# Altium footprint library MLACH0_9.PCBLIB: 97 footprints (part 2 of 7)
Each footprint in its own frame and in the unit in brackets; x right, y up, seen from the top. Pads: shape width x height; smd on the part's side, far side on the other; paste and mask are expansions set on the pad; w line width, h text height; cw(c..) or ccw(c..) is an arc to the next point about the centre after c.
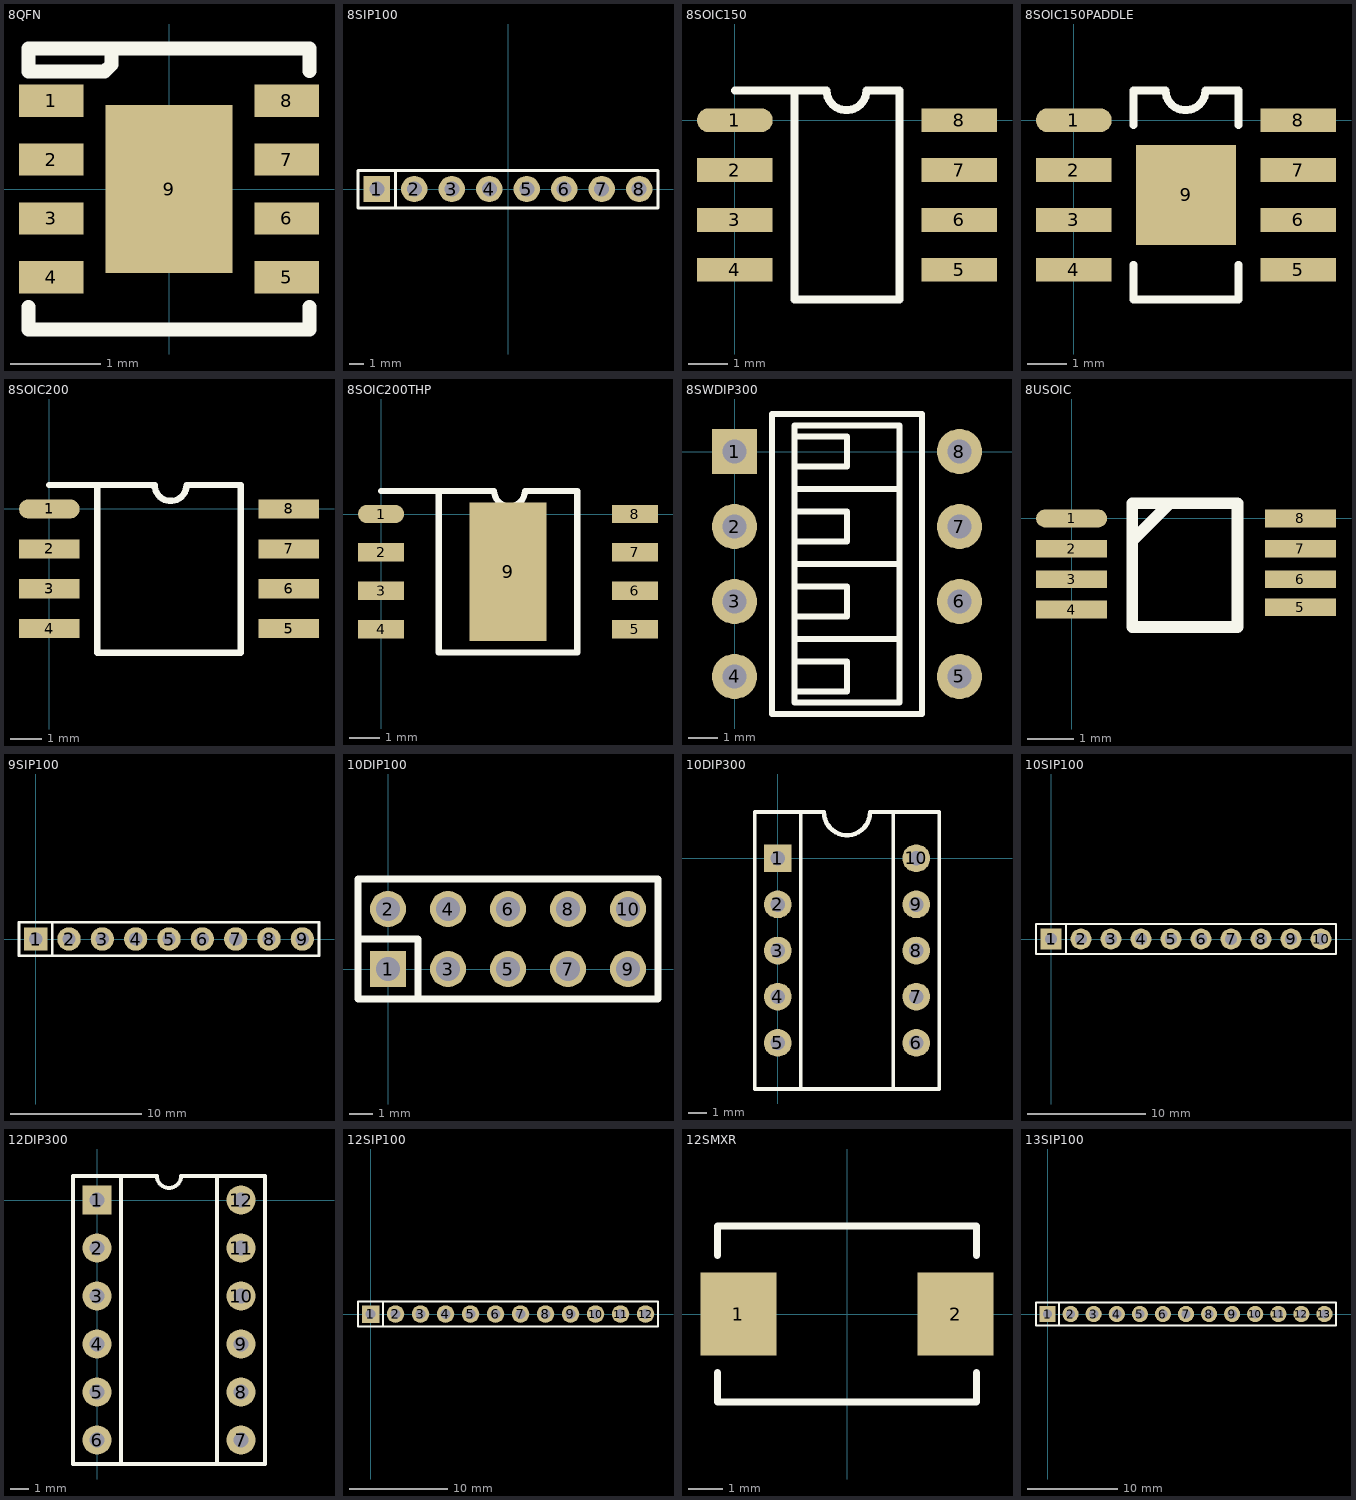
[diagram p1: the footprints below, top view; thin cyan lines are the x and y axes]

## 8QFN [mil]
pads (9):
  rect 28x14 smd: 1(-51.18,38.39) 2(-51.18,12.8) 3(-51.18,-12.8) 4(-51.18,-38.39) 5(51.18,-38.39) 6(51.18,-12.8) 7(51.18,12.8) 8(51.18,38.39)
  rect 55x73 smd: 9(0,0)
TopOverlay:
  lines w6: -61.02,-51.18 -61.02,-61.02 61.02,-61.02 61.02,-51.18 ; -61,51 -28,51 -25,54 -25,60 ; -61.02,51.18 -61.02,61.02 61.02,61.02 61.02,51.18

## 8SIP100 [mil]
pads (8):
  rect 70x70 hole 40: 1(-350,0)
  round 70 hole 40: 2(-250,0) 3(-150,0) 4(-50,0) 5(50,0) 6(150,0) 7(250,0) 8(350,0)
TopOverlay:
  lines w8: -300,-50 -300,50 ; -400,-50 -400,50 400,50 400,-50 -400,-50

## 8SOIC150 [mil]
pads (8):
  oval 76x24 smd: 1(0,0)
  rect 76x24 smd: 2(0,-50) 3(0,-100) 4(0,-150) 5(225,-150) 6(225,-100) 7(225,-50) 8(225,0)
TopOverlay:
  lines w8: 0,30 92,30 ccw(c112,30) 132,30 165,30 165,-180 60,-180 60,30
3D body: height 66.93, standoff 0, extent 33.76,-173.43 191.24,23.43
3D body: height 31.5, standoff 0, extent 191.24,-8.07 234.55,7.68
3D body: height 31.5, standoff 0, extent 191.24,-58.07 234.55,-42.32
3D body: height 31.5, standoff 0, extent 191.24,-108.07 234.55,-92.32
3D body: height 31.5, standoff 0, extent 191.24,-158.07 234.55,-142.32
3D body: height 31.5, standoff 0, extent -9.55,-158.07 33.76,-142.32
3D body: height 31.5, standoff 0, extent -9.55,-108.07 33.76,-92.32
3D body: height 31.5, standoff 0, extent -9.55,-58.07 33.76,-42.32
3D body: height 31.5, standoff 0, extent -9.55,-8.07 33.76,7.68

## 8SOIC150PADDLE [mil]
pads (9):
  oval 76x24 smd: 1(0,0)
  rect 76x24 smd: 2(0,-50) 3(0,-100) 4(0,-150) 5(225,-150) 6(225,-100) 7(225,-50) 8(225,0)
  rect 100x100 smd: 9(112.5,-75)
TopOverlay:
  lines w8: 60,-145 60,-180 165,-180 165,-145 ; 60,-5 60,30 92,30 ccw(c112,30) 132,30 165,30 165,-5

## 8SOIC200 [mil]
pads (8):
  oval 76x24 smd: 1(0,0)
  rect 76x24 smd: 2(0,-50) 3(0,-100) 4(0,-150) 5(300,-150) 6(300,-100) 7(300,-50) 8(300,0)
TopOverlay:
  lines w8: 0,30 132,30 ccw(c152,30) 172,30 240,30 240,-180 60,-180 60,30
3D body: height 31.5, standoff 0, extent 263.78,-158.07 309.55,-142.32
3D body: height 31.5, standoff 0, extent 263.78,-108.07 309.55,-92.32
3D body: height 31.5, standoff 0, extent 261.81,-58.07 309.55,-42.32
3D body: height 31.5, standoff 0, extent 263.78,-8.07 309.55,7.68
3D body: height 31.5, standoff 0, extent -9.55,-8.07 33.76,7.68
3D body: height 31.5, standoff 0, extent -9.55,-58.07 33.76,-42.32
3D body: height 31.5, standoff 0, extent -9.55,-108.07 33.76,-92.32
3D body: height 31.5, standoff 0, extent -9.55,-158.07 33.76,-142.32
3D body: height 66.93, standoff 0, extent 33.76,-173.43 265.75,23.43

## 8SOIC200THP [mil]
pads (9):
  oval 60x24 smd: 1(0,0)
  rect 60x24 smd: 2(0,-50) 3(0,-100) 4(0,-150) 5(330,-150) 6(330,-100) 7(330,-50) 8(330,0)
  rect 100x180 smd: 9(165,-75)
TopOverlay:
  lines w8: 0,30 147,30 ccw(c167,30) 187,30 255,30 255,-180 75,-180 75,30

## 8SWDIP300 [mil]
pads (8):
  rect 60x60 hole 32: 1(0,0)
  round 60 hole 32: 2(0,-100) 3(0,-200) 4(0,-300) 5(300,-300) 6(300,-200) 7(300,-100) 8(300,0)
TopOverlay:
  lines w8: 80,-320 150,-320 150,-280 80,-280 ; 80,-250 220,-250 ; 80,-220 150,-220 150,-180 80,-180 ; 80,-150 220,-150 ; 80,-120 150,-120 150,-80 80,-80 ; 80,-50 220,-50 ; 80,-20 150,-20 150,20 80,20 ; 122.05,50 250,50 250,-350 50,-350 50,50 125,50 ; 80,-335 220,-335 220,35 80,35 80,-335

## 8USOIC [mil]
pads (8):
  oval 60x15 smd: 1(0,0)
  rect 60x15 smd: 2(0,-25.59) 3(0,-51.18) 4(0,-76.77) 5(192.91,-74.8) 6(192.91,-51.18) 7(192.91,-25.59) 8(192.91,0)
TopOverlay:
  lines w10: 51.18,-18.7 82.68,12.79 ; 51.18,-91.54 51.18,12.79 139.76,12.79 139.76,-91.54 51.18,-91.54

## 9SIP100 [mil]
pads (9):
  rect 70x70 hole 40: 1(0,0)
  round 70 hole 40: 2(100,0) 3(200,0) 4(300,0) 5(400,0) 6(500,0) 7(600,0) 8(700,0) 9(800,0)
TopOverlay:
  lines w8: 50,-50 50,50 ; -50,-50 850,-50 850,50 -50,50 -50,-50

## 10DIP100 [mil]
height 393.7
pads (10):
  rect 60x60 hole 40: 1(0,0)
  round 60 hole 40: 2(0,100) 3(100,0) 4(100,100) 5(200,0) 6(200,100) 7(300,0) 8(300,100) 9(400,0) 10(400,100)
TopOverlay:
  lines w12: -50,50 50,50 50,-50 ; -50,-50 450,-50 450,150 -50,150 -50,-50

## 10DIP300 [mil]
pads (10):
  rect 60x60 hole 32: 1(0,0)
  round 60 hole 32: 2(0,-100) 3(0,-200) 4(0,-300) 5(0,-400) 6(300,-400) 7(300,-300) 8(300,-200) 9(300,-100) 10(300,0)
TopOverlay:
  lines w8: 50,-500 50,100 ; 100,100 -50,100 -50,-500 350,-500 350,100 200,100 ; 250,-500 250,100
  lines w10: 100,100 ccw(c150,100) 200,100
3D body: height 196.85, standoff 0, extent -50,-500 350,100

## 10SIP100 [mil]
pads (10):
  rect 70x70 hole 40: 1(0,0)
  round 70 hole 40: 2(100,0) 3(200,0) 4(300,0) 5(400,0) 6(500,0) 7(600,0) 8(700,0) 9(800,0) 10(900,0)
TopOverlay:
  lines w8: 50,-50 50,50 ; -50,-50 -50,50 950,50 950,-50 -50,-50

## 12DIP300 [mil]
pads (12):
  rect 60x60 hole 32: 1(0,0)
  round 60 hole 32: 2(0,-100) 3(0,-200) 4(0,-300) 5(0,-400) 6(0,-500) 7(300,-500) 8(300,-400) 9(300,-300) 10(300,-200) 11(300,-100) 12(300,0)
TopOverlay:
  lines w8: 50,-550 -50,-550 -50,50 50,50 ; 50,-550 50,50 ; 50,-550 250,-550 ; 50,50 125,50 ccw(c150,50) 175,50 250,50 ; 250,-550 350,-550 350,50 250,50 ; 250,-550 250,50

## 12SIP100 [mil]
pads (12):
  rect 70x70 hole 40: 1(0,0)
  round 70 hole 40: 2(100,0) 3(200,0) 4(300,0) 5(400,0) 6(500,0) 7(600,0) 8(700,0) 9(800,0) 10(900,0) 11(1000,0) 12(1100,0)
TopOverlay:
  lines w8: 50,-50 50,50 ; -50,-50 1150,-50 1150,50 -50,50 -50,-50
3D body: height 98.43, standoff 0, extent -50,-50 1150,50
3D body: height 295.28, standoff 0, extent -10,-10 10,10
3D body: height 295.28, standoff 0, extent 90,-10 110,10
3D body: height 295.28, standoff 0, extent 190,-10 210,10
3D body: height 295.28, standoff 0, extent 190,-10 210,10
3D body: height 295.28, standoff 0, extent 290,-10 310,10
3D body: height 295.28, standoff 0, extent 390,-10 410,10
3D body: height 295.28, standoff 0, extent 490,-10 510,10
3D body: height 295.28, standoff 0, extent 590,-10 610,10
3D body: height 295.28, standoff 0, extent 690,-10 710,10
3D body: height 295.28, standoff 0, extent 790,-10 810,10
3D body: height 295.28, standoff 0, extent 890,-10 910,10
3D body: height 295.28, standoff 0, extent 990,-10 1010,10
3D body: height 295.28, standoff 0, extent 1090,-10 1110,10

## 12SMXR [mm]
pads (2):
  rect 2.2x2.4 smd: 1(-3.15,0) 2(3.15,0)
TopOverlay:
  lines w0.2: -3.75,-1.7 -3.75,-2.55 3.75,-2.55 3.75,-1.7 ; -3.75,1.7 -3.75,2.55 3.75,2.55 3.75,1.7
3D body: height 1.7, standoff 0.6, extent -3.35,-2.25 3.35,2.25
3D body: height 0.7, standoff 0, extent -3.75,-2.55 3.75,2.55

## 13SIP100 [mil]
pads (13):
  rect 70x70 hole 40: 1(0,0)
  round 70 hole 40: 2(100,0) 3(200,0) 4(300,0) 5(400,0) 6(500,0) 7(600,0) 8(700,0) 9(800,0) 10(900,0) 11(1000,0) 12(1100,0) 13(1200,0)
TopOverlay:
  lines w8: 50,-50 50,50 ; -50,-50 1250,-50 1250,50 -50,50 -50,-50